# Altium schematic symbol library SCH - MCU - ATMEGA - MICROCHIP AVR64DD14 SOIC14.SchLib: 1 symbol
Pins are listed as number, name and electrical type; pins without a type are passive.

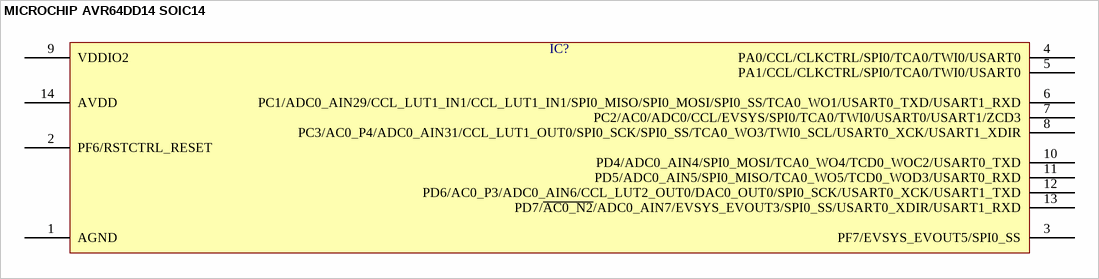
[diagram p0: symbol MICROCHIP AVR64DD14 SOIC14]

## MICROCHIP AVR64DD14 SOIC14
designator IC?  (value not drawn)
pins: 1 AGND, 2 PF6/RSTCTRL_RESET, 3 PF7/EVSYS_EVOUT5/SPI0_SS, 4 PA0/CCL/CLKCTRL/SPI0/TCA0/TWI0/USART0, 5 PA1/CCL/CLKCTRL/SPI0/TCA0/TWI0/USART0, 6 PC1/ADC0_AIN29/CCL_LUT1_IN1/CCL_LUT1_IN1/SPI0_MISO/SPI0_MOSI/SPI0_SS/TCA0_WO1/USART0_TXD/USART1_RXD, 7 PC2/AC0/ADC0/CCL/EVSYS/SPI0/TCA0/TWI0/USART0/USART1/ZCD3, 8 PC3/AC0_P4/ADC0_AIN31/CCL_LUT1_OUT0/SPI0_SCK/SPI0_SS/TCA0_WO3/TWI0_SCL/USART0_XCK/USART1_XDIR, 9 VDDIO2, 10 PD4/ADC0_AIN4/SPI0_MOSI/TCA0_WO4/TCD0_WOC2/USART0_TXD, 11 PD5/ADC0_AIN5/SPI0_MISO/TCA0_WO5/TCD0_WOD3/USART0_RXD, 12 PD6/AC0_P3/ADC0_AIN6/CCL_LUT2_OUT0/DAC0_OUT0/SPI0_SCK/USART0_XCK/USART1_TXD, 13 PD7/~{AC0_N2}/ADC0_AIN7/EVSYS_EVOUT3/SPI0_SS/USART0_XDIR/USART1_RXD, 14 AVDD